# Altium footprint library 3-Pcblib_Inductor.PcbLib: 28 footprints (part 1 of 2)
Each footprint in its own frame and in the unit in brackets; x right, y up, seen from the top. Pads: shape width x height; smd on the part's side, far side on the other; paste and mask are expansions set on the pad; w line width, h text height; cw(c..) or ccw(c..) is an arc to the next point about the centre after c.
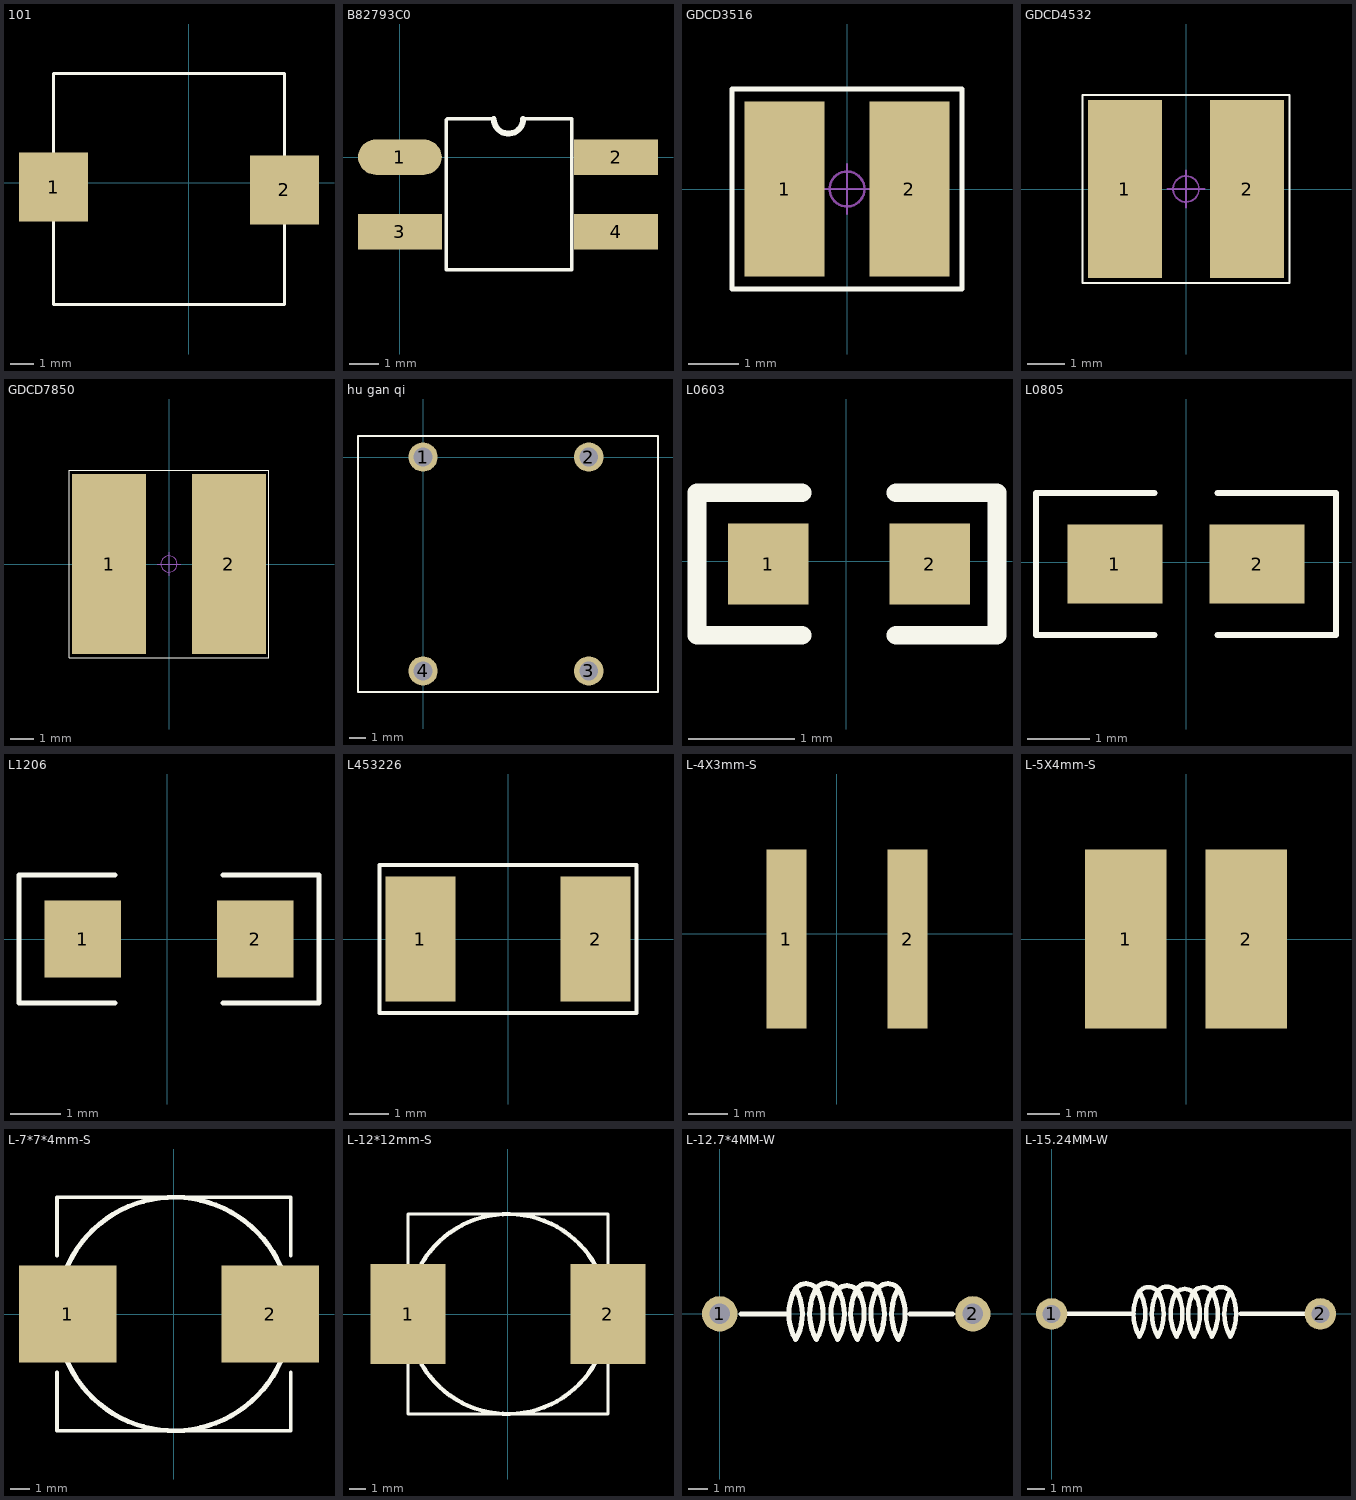
[diagram p0: the footprints below, top view; thin cyan lines are the x and y axes]

## 101 [mm]
height 1.2
pads (2):
  rect 3x3 smd: 1(-5.863,-0.178) 2(4.166,-0.305)
Top Overlay:
  lines w0.127: -5.863,-5.279 -5.863,4.75 4.166,4.75 4.166,-5.279 -5.863,-5.279

## B82793C0 [mm]
pads (4):
  oval 2.85x1.2 smd: 1(0,0)
  rect 2.85x1.2 smd: 2(7.35,0) 3(0,-2.54) 4(7.35,-2.54)
Top Overlay:
  lines w0.12: 3.191,1.301 1.61,1.301 1.579,1.27 1.579,-3.832 5.842,-3.832 ; 4.15,1.301 5.84,1.301 ; 5.842,-3.81 5.842,1.301
  lines w0.2: 3.191,1.301 ccw(c3.691,1.301) 4.191,1.301

## GDCD3516 [mm]
pads (2):
  rect 1.6x3.5 smd: 1(-1.25,0) 2(1.25,0)
Top Overlay:
  lines w0.1: -2.3,-2 -2.3,2 2.3,2 2.3,-2 -2.3,-2
Mechanical 16:
  circle w0.05: c0,0 r0.35
  lines w0.05: -0.5,0 0.5,0 ; 0,-0.5 0,0.5

## GDCD4532 [mm]
pads (2):
  rect 2x4.8 smd: 1(-1.65,0) 2(1.65,0)
Top Overlay:
  lines w0.05: -2.794,-2.54 2.794,-2.54 2.794,2.54 -2.794,2.54 -2.794,-2.54
Mechanical 16:
  circle w0.05: c0,0 r0.35
  lines w0.05: -0.5,0 0.5,0 ; 0,-0.5 0,0.5
3D body: height 3.18, standoff -0.07, extent -2.194,-1.93 2.295,2.07

## GDCD7850 [mm]
pads (2):
  rect 3.2x7.8 smd: 1(-2.6,0) 2(2.6,0)
Top Overlay:
  lines w0.05: -4.318,-4.064 -4.318,4.064 4.318,4.064 4.318,-4.064 -4.318,-4.064
Mechanical 16:
  circle w0.05: c0,0 r0.35
  lines w0.05: -0.5,0 0.5,0 ; 0,-0.5 0,0.5
3D body: height 5, standoff -0.05, extent -3.896,-3.461 3.896,3.539

## hu gan qi [mil]
pads (4):
  round 70 hole 45: 1(0,0) 2(395,0) 3(395,-510) 4(0,-510)
Top Overlay:
  lines w3.94: -155,-560 560,-560 560,50 -155,50 -155,-560

## L0603 [mil]
pads (2):
  rect 30x30 smd: 1(-29,-1) 2(31,-1)
Top Overlay:
  lines w7: -55.5,25.5 -55.5,-27.5 -16.5,-27.5 ; -54,25.5 -16.5,25.5 ; 18.5,-27.5 56,-27.5 56,25.5 18.5,25.5
3D body: height 17.72, standoff 0, extent -30,-17 32.99,14.5

## L0805 [mil]
pads (2):
  rect 60x50 smd: 1(-45,-1) 2(45,-1)
Top Overlay:
  lines w3.94: -20,-46 -95,-46 -95,44 -20,44 ; 20,-46 95,-46 95,44 20,44
3D body: height 37.4, standoff 0, extent -39.37,-24.24 39.37,23

## L1206 [mil]
pads (2):
  rect 60x60 smd: 1(-66,0) 2(69,0)
Top Overlay:
  lines w3.94: -41,-50 -116,-50 -116,50 -41,50 ; 44,-50 119,-50 119,50 44,50
3D body: height 43.31, standoff 0, extent -60.99,-32 64.99,30.99

## L453226 [mm]
pads (2):
  rect 1.8x3.2 smd: 1(-2.25,0) 2(2.25,0)
Top Overlay:
  lines w0.1: -3.3,-1.9 3.3,-1.9 3.3,1.9 -3.3,1.9 -3.3,-1.9

## L-4X3mm-S [mm]
height 3.5
pads (2):
  rect 1x4.5 smd: 1(-1.27,-0.127) 2(1.778,-0.127)
3D body: height 4.5, standoff -0.01, extent -2.73,-2.727 2.984,2.473

## L-5X4mm-S [mm]
height 4.5
pads (2):
  rect 2.5x5.5 smd: 1(-1.85,0) 2(1.85,0)
3D body: height 4.5, standoff -0.01, extent -2.857,-2.6 2.857,2.6

## L-7*7*4mm-S [mm]
height 6
pads (2):
  rect 5x5 smd: 1(-5.461,0) 2(4.953,0)
Top Overlay:
  circle w0.254: c0,0 r6
  lines w0.2: -6,-3 -6,-6 6,-6 6,-3 ; -6,3 -6,6 6,6 6,3
3D body: height 8, standoff -0.2, extent -6.051,-5.944 5.949,6.056

## L-12*12mm-S [mm]
height 6
pads (2):
  rect 4.5x6 smd: 1(-6,0) 2(6,0)
Top Overlay:
  circle w0.254: c0,0 r6
  lines w0.2: -6,-3 -6,-6 6,-6 6,-3 ; -6,3 -6,6 6,6 6,3
3D body: height 8, standoff -0.2, extent -6.051,-5.944 5.949,6.056

## L-12.7*4MM-W [mil]
height 196.85
pads (2):
  round 70 hole 40: 1(0,0) 2(500,0)
Top Overlay:
  lines w10: 41.9,0.1 137,0 ; 144.9,37.97 cw(c170.57,33.69) 196.12,38.6 ; 185.9,38.97 cw(c211.57,34.69) 237.12,39.6 ; 225.9,33.97 cw(c251.57,29.69) 277.12,34.6 ; 266.12,37.6 cw(c291.78,33.33) 317.33,38.24 ; 306.9,37.97 cw(c332.57,33.69) 358.12,38.6 ; 376,0 459.88,0.12 ; 149.86,50.46 cw(c59.12,-0.4) 150,-51 cw(c240.74,-0.15) 149.86,50.46 ; 190.86,50.46 ccw(c281.74,-0.15) 191,-51 ccw(c100.12,-0.4) 190.86,50.46 ; 232.86,50.46 ccw(c323.74,-0.15) 233,-51 ccw(c142.12,-0.4) 232.86,50.46 ; 271.86,50.46 ccw(c362.74,-0.15) 272,-51 ccw(c181.12,-0.4) 271.86,50.46 ; 311.86,50.46 ccw(c402.74,-0.15) 312,-51 ccw(c221.12,-0.4) 311.86,50.46 ; 352.86,50.46 cw(c262.12,-0.4) 353,-51 cw(c443.74,-0.15) 352.86,50.46
3D body: height 161.42, standoff -51.18, extent -9,-60 506.75,65.98

## L-15.24MM-W [mil]
height 196.85
pads (2):
  round 70 hole 40: 1(0,0) 2(600,0.11)
Top Overlay:
  lines w10: 0,0.19 183,0 ; 190.9,37.97 cw(c216.57,33.69) 242.12,38.6 ; 231.9,38.97 cw(c257.57,34.69) 283.12,39.6 ; 271.9,33.97 cw(c297.57,29.69) 323.12,34.6 ; 312.12,37.6 cw(c337.78,33.33) 363.33,38.24 ; 352.9,37.97 cw(c378.57,33.69) 404.12,38.6 ; 422,0 600,0.25 ; 195.86,50.46 ccw(c286.74,-0.15) 196,-51 ccw(c105.12,-0.4) 195.86,50.46 ; 236.86,50.46 cw(c146.12,-0.4) 237,-51 cw(c327.74,-0.15) 236.86,50.46 ; 278.86,50.46 cw(c188.12,-0.4) 279,-51 cw(c369.74,-0.15) 278.86,50.46 ; 317.86,50.46 cw(c227.12,-0.4) 318,-51 cw(c408.74,-0.15) 317.86,50.46 ; 357.86,50.46 cw(c267.12,-0.4) 358,-51 cw(c448.74,-0.15) 357.86,50.46 ; 398.86,50.46 ccw(c489.74,-0.15) 399,-51 ccw(c308.12,-0.4) 398.86,50.46
3D body: height 275.59, standoff -80.63, extent -12.06,-120.22 608.06,116